# Altium schematic symbol library MFS101D-8-Z.SchLib: 1 symbol
Pins are listed as number, name and electrical type; pins without a type are passive.

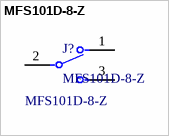
[diagram p0: symbol MFS101D-8-Z]

## MFS101D-8-Z
designator J?
No Description Available; Manufacturer: Nidec Copal Electronics; Copyright: Copyright (C) 2022 Ultra Librarian. All rights reserved.; RefDes: RefDes; Type: DEV; Supplier: Digi-Key; Supplier Part Number: 563-1556-ND; Manufacturer Part Number: MFS101D-8-Z
footprint CONN03_MFS_11P8X5P8_NDC
pins: 1, 2, 3